# EAGLE library part TDC7200 (library yapo)
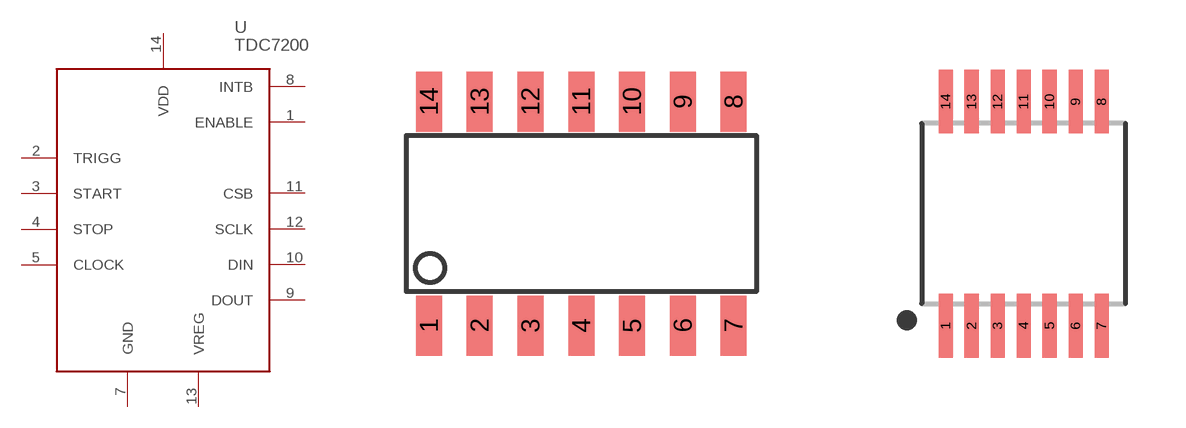
[diagram p43: symbol with the pads of SOIC14_NARROW; footprints SOIC14_NARROW, TSSOP14]

Designator prefix -

## TDC7200  [SOIC14_NARROW]
1  ENABLE
2  TRIGG
3  START
4  STOP
5  CLOCK
7  GND
8  INTB
9  DOUT
10  DIN
11  CSB
12  SCLK
13  VREG
14  VDD

## TDC7200TSSOP  [TSSOP14]
Pads as for SOIC14_NARROW

## Footprint SOIC14_NARROW (pad centres in mm)
smd 0.65 x 1.5: 1 -3.81,-2.8; 2 -2.54,-2.8; 3 -1.27,-2.8; 4 0,-2.8; 5 1.27,-2.8; 6 2.54,-2.8; 7 3.81,-2.8; 8 3.81,2.8; 9 2.54,2.8; 10 1.27,2.8; 11 0,2.8; 12 -1.27,2.8; 13 -2.54,2.8; 14 -3.81,2.8

## Footprint TSSOP14 (pad centres in mm)
smd 0.35 x 1.6: 1 -1.95,-2.8; 2 -1.3,-2.8; 3 -0.65,-2.8; 4 0,-2.8; 5 0.65,-2.8; 6 1.3,-2.8; 7 1.95,-2.8; 8 1.95,2.8; 9 1.3,2.8; 10 0.65,2.8; 11 0,2.8; 12 -0.65,2.8; 13 -1.3,2.8; 14 -1.95,2.8